# Altium footprint library PCB - CRYSTALS - ABRACON ASEMB.PCBLIB: 1 footprints
Each footprint in its own frame and in the unit in brackets; x right, y up, seen from the top. Pads: shape width x height; smd on the part's side, far side on the other; paste and mask are expansions set on the pad; w line width, h text height; cw(c..) or ccw(c..) is an arc to the next point about the centre after c.
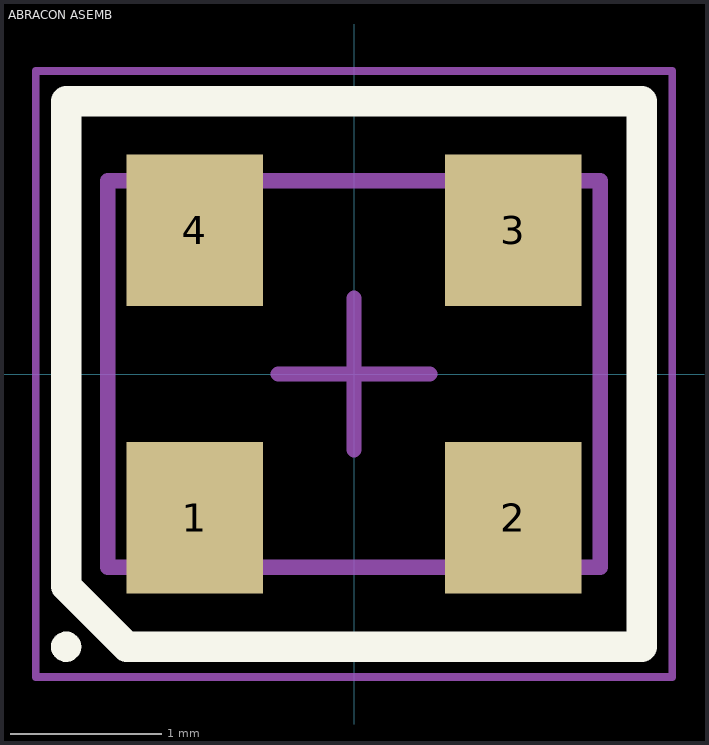
[diagram p0: the footprint, top view; thin cyan lines are the x and y axes]

## ABRACON ASEMB [mm] "MEMS Clock, 4-Leads, Body 2.50x3.20mm, Pitch 2.10mm, IPC Medium Density"
height 0.85
pads (4):
  rect 0.9x1 smd: 1(-1.05,-0.95) 2(1.05,-0.95) 3(1.05,0.95) 4(-1.05,0.95)
Top Overlay:
  circle w0.1: c-1.9,-1.8 r0.05
  lines w0.2: -1.9,-1.4 -1.9,1.8 1.9,1.8 1.9,-1.8 -1.5,-1.8 -1.9,-1.4
Mechanical 13:
  lines w0.1: -1.625,-1.275 -1.625,1.275 1.625,1.275 1.625,-1.275 -1.625,-1.275
Mechanical 15:
  lines w0.05: -2.1,-2 -2.1,2 2.1,2 2.1,-2 -2.1,-2
Mechanical 2 (Mech9):
  lines w0.1: -0.5,0 0.5,0 ; 0,-0.5 0,0.5
3D body: height 0.85, standoff 0, extent -1.625,-1.275 1.625,1.275